# EAGLE library part 418217270906 (library Switches_rev16a)
WS-RA 2.54 mm right angled compact THT Dip Switch with raised actuator, 6 Pole
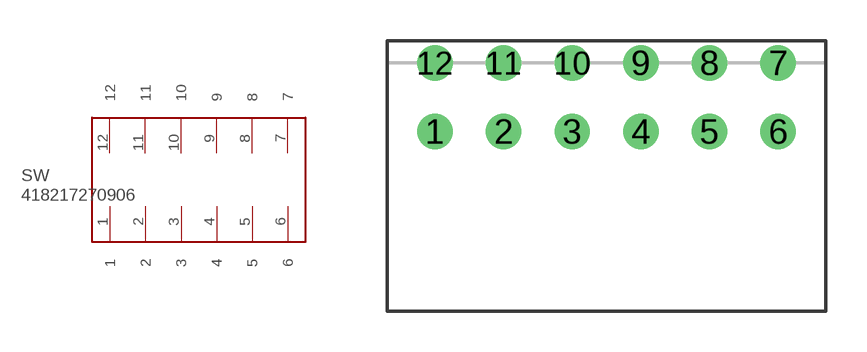
[diagram p60: symbol with the pads of 418217270906; footprint 418217270906]

Designator prefix SW

## 418217270906  [418217270906]
1  1
2  2
3  3
4  4
5  5
6  6
7  7
8  8
9  9
10  10
11  11
12  12

## Footprint 418217270906 (pad centres in mm)
WS-RA 2.54 mm right angled compact THT Dip Switch with raised actuator, 6 Pole
drill 0.8: 1 -6.35,-1.27; 2 -3.81,-1.27; 3 -1.27,-1.27; 4 1.27,-1.27; 5 3.81,-1.27; 6 6.35,-1.27; 7 6.35,1.27; 8 3.81,1.27; 9 1.27,1.27; 10 -1.27,1.27; 11 -3.81,1.27; 12 -6.35,1.27